# EAGLE library part 1X10_CLEAN (library ModernDevice#1)
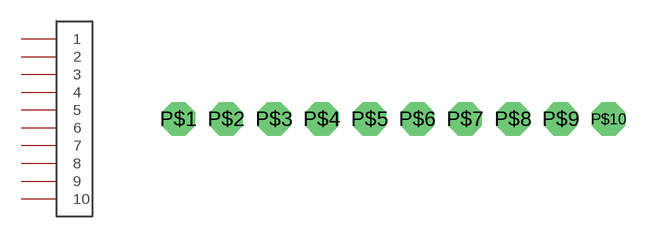
[diagram p4: symbol with the pads of 1X10_CLEAN; footprint 1X10_CLEAN]

Designator prefix -

## 1X10_CLEAN  [1X10_CLEAN]
P$1  1
P$2  2
P$3  3
P$4  4
P$5  5
P$6  6
P$7  7
P$8  8
P$9  9
P$10  10

## Footprint 1X10_CLEAN (pad centres in mm)
drill 1.016 pad 1.778 octagon: P$1 -11.43,0; P$2 -8.89,0; P$3 -6.35,0; P$4 -3.81,0; P$5 -1.27,0; P$6 1.27,0; P$7 3.81,0; P$8 6.35,0; P$9 8.89,0; P$10 11.43,0